# Altium footprint library SPDT_Power_L102021ML04Q_Thru-Hole.PcbLib: 1 footprints
Each footprint in its own frame and in the unit in brackets; x right, y up, seen from the top. Pads: shape width x height; smd on the part's side, far side on the other; paste and mask are expansions set on the pad; w line width, h text height; cw(c..) or ccw(c..) is an arc to the next point about the centre after c.
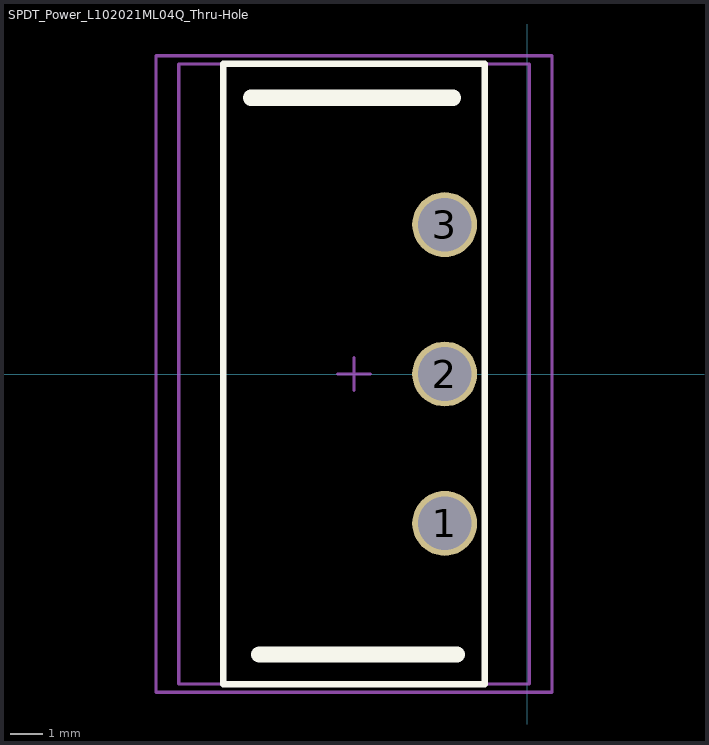
[diagram p0: the footprint, top view; thin cyan lines are the x and y axes]

## SPDT_Power_L102021ML04Q_Thru-Hole [mm]
height 12.4
pads (3):
  round 2 hole 1.65: 1(-2.54,-4.6) 2(-2.54,0) 3(-2.54,4.6)
Top Overlay:
  lines w0.2: -9.359,-9.55 -9.359,9.55 -1.309,9.55 -1.309,-9.55 -9.359,-9.55
  lines w0.5: -8.509,8.509 -2.286,8.509 ; -8.255,-8.636 -2.159,-8.636
Mechanical 13:
  lines w0.1: -10.729,-9.55 -10.729,9.55 0.061,9.55 0.061,-9.55 -10.729,-9.55
Mechanical 15:
  lines w0.1: -5.834,0 -4.834,0 ; -5.334,-0.5 -5.334,0.5 ; -11.434,-9.8 -11.434,9.8 0.766,9.8 0.766,-9.8 -11.434,-9.8
3D body: height 12.4, standoff 0, extent -10.729,-9.55 0.061,9.55